# Altium integrated library P-Channel Dual FET Array.IntLib: 27 symbols
Pins are listed as number, name and electrical type; pins without a type are passive.

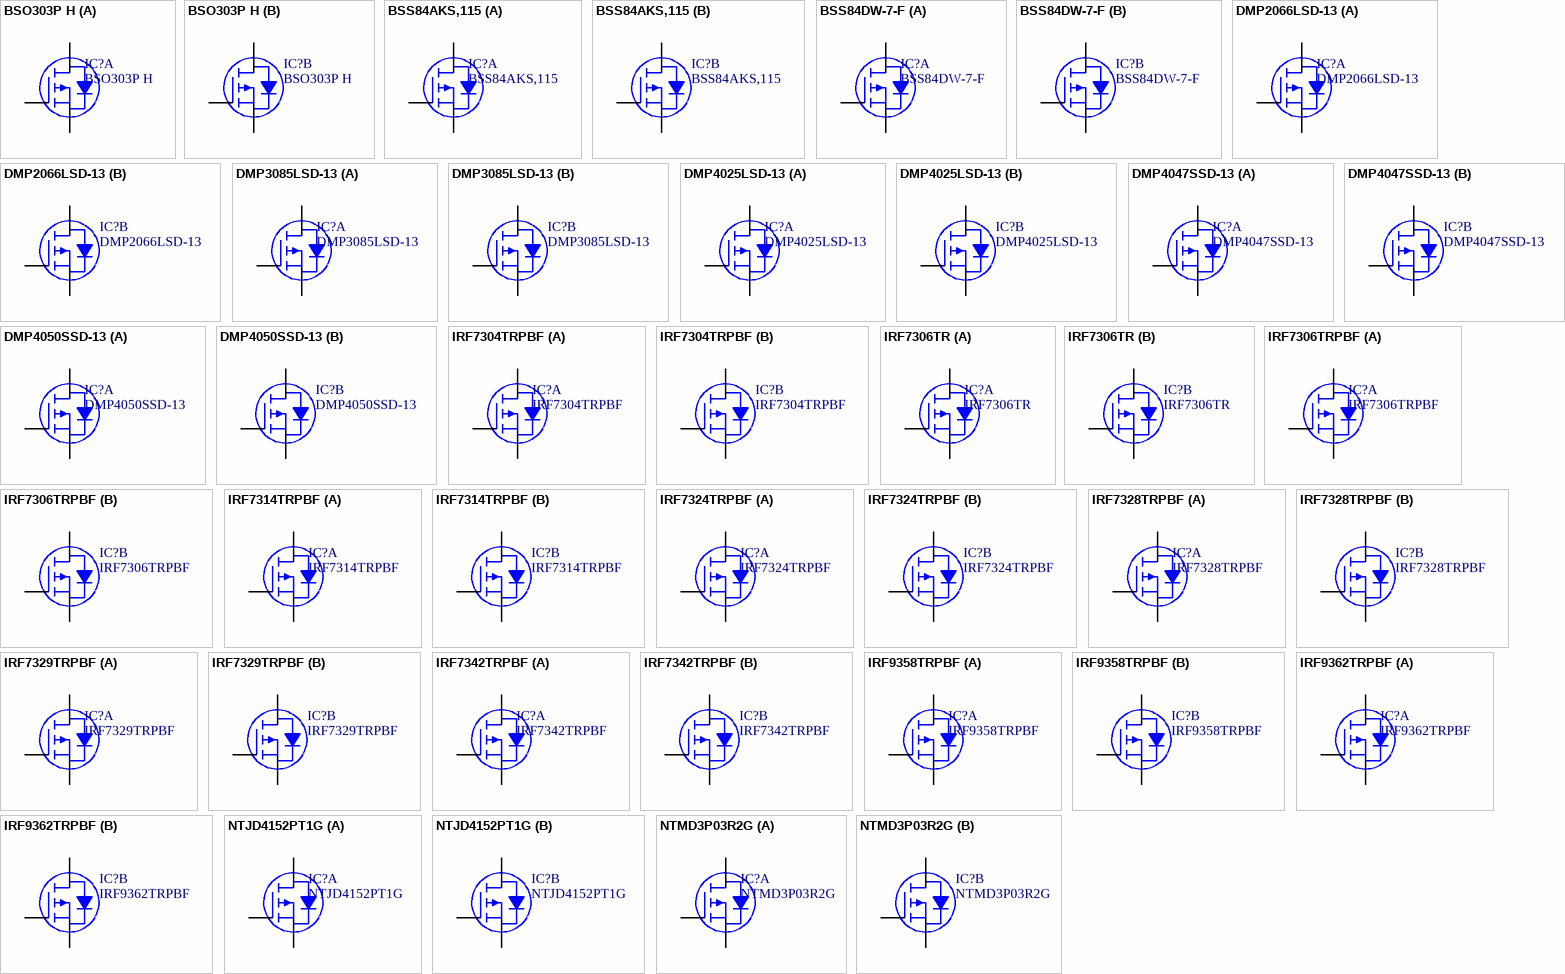
[diagram p0: symbols BSO303P H to NTMD3P03R2G]

## BSO303P H
designator IC?
MOSFET 2P-CH 30V 7A 8DSO; Manufacturer: Infineon Technologies; Rds On (Max) at Id, Vgs: 21 mOhm @ 8.2A, 10V; Vgs(th) (Max) at Id: 2V @ 100uA; Gate Charge (Qg): 49nC @ 10V; Input Capacitance (Ciss) at Vds: 2678pF @ 25V; Power - Max: 2W; Part Number: BSO303P H; PartId: 8234; Supplier 1: Digi-Key; Supplier Part Number 1: BSO303P HTR-ND; ComponentLink1Description: Datasheet; ComponentLink1URL: http://www.infineon.com/dgdl/BSO303P_1+3.pdf?folderId=db3a304314dca38901154a7313d21a66&fileId=db3a304326c2768b0126d1b29d566873; ComponentLink2Description: Digi-Key Listing; ComponentLink2URL: http://www.digikey.com/product-detail/en/BSO303P%20H/BSO303P%20HTR-ND/2337870; Price: 0.5472; Type: 2 P-Channel (Dual); Device Package: 8-SOIC (0.154", 3.90mm Width); Drain to Source Voltage (Vdss): 30V; Features: Logic Level Gate; Current Continuous Drain: 7A
footprint INFINEON SO-8
part A pins: 1 S1, 2 G1, 7 D1, 8 D1
part B pins: 3 S2, 4 G2, 5 D2, 6 D2

## BSS84AKS,115
designator IC?
MOSFET 2P-CH 50V 0.16A 6TSSOP; Manufacturer: NXP Semiconductors; Rds On (Max) at Id, Vgs: 7.5 Ohm @ 100mA, 10V; Vgs(th) (Max) at Id: 2.1V @ 250uA; Gate Charge (Qg): 0.35nC @ 5V; Input Capacitance (Ciss) at Vds: 36pF @ 25V; Power - Max: 445mW; Current Continuous Drain: 160mA; Part Number: BSS84AKS,115; PartId: 8221; Supplier 1: Digi-Key; Supplier Part Number 1: 568-8394-2-ND; ComponentLink1Description: Datasheet; ComponentLink1URL: http://www.nxp.com/documents/data_sheet/BSS84AKS.pdf; ComponentLink2Description: Digi-Key Listing; ComponentLink2URL: http://www.digikey.com/product-detail/en/BSS84AKS,115/568-8394-2-ND/2763893; Price: 0.1024; Type: 2 P-Channel (Dual); Device Package: 6-TSSOP, SC-88, SOT-363; Drain to Source Voltage (Vdss): 50V; Features: Logic Level Gate
footprint NXP SOT-363
part A pins: 1 S1, 2 G1, 6 D1
part B pins: 3 D2, 4 S2, 5 G2

## BSS84DW-7-F
designator IC?
MOSFET 2P-CH 50V 0.13A SC70-6; Manufacturer: Diodes Incorporated; Rds On (Max) at Id, Vgs: 10 Ohm @ 100mA, 5V; Vgs(th) (Max) at Id: 2V @ 1mA; Input Capacitance (Ciss) at Vds: 45pF @ 25V; Power - Max: 300mW; Current Continuous Drain: 130mA; Part Number: BSS84DW-7-F; PartId: 8222; Supplier 1: Digi-Key; Supplier Part Number 1: BSS84DW-FDITR-ND; ComponentLink1Description: Datasheet; ComponentLink1URL: http://www.diodes.com/_files/datasheets/ds30204.pdf; ComponentLink2Description: Digi-Key Listing; ComponentLink2URL: http://www.digikey.com/product-detail/en/BSS84DW-7-F/BSS84DW-FDITR-ND/717725; Price: 0.099; Type: 2 P-Channel (Dual); Device Package: 6-TSSOP, SC-88, SOT-363; Gate Charge (Qg): -; Drain to Source Voltage (Vdss): 50V; Features: Logic Level Gate
footprint DIODES SOT-363
part A pins: 1 S1, 2 G1, 6 D1
part B pins: 3 D2, 4 S2, 5 G2

## DMP2066LSD-13
designator IC?
MOSFET 2P-CH 20V 5.8A 8-SOIC; Manufacturer: Diodes Incorporated; Rds On (Max) at Id, Vgs: 40 mOhm @ 4.6A, 4.5V; Vgs(th) (Max) at Id: 1.2V @ 250uA; Gate Charge (Qg): 10.1nC @ 4.5V; Input Capacitance (Ciss) at Vds: 820pF @ 15V; Power - Max: 2W; Part Number: DMP2066LSD-13; PartId: 8228; Supplier 1: Digi-Key; Supplier Part Number 1: DMP2066LSDDITR-ND; ComponentLink1Description: Datasheet; ComponentLink1URL: http://www.diodes.com/_files/datasheets/ds31453.pdf; ComponentLink2Description: Digi-Key Listing; ComponentLink2URL: http://www.digikey.com/product-detail/en/DMP2066LSD-13/DMP2066LSDDITR-ND/1964689; Price: 0.261; Type: 2 P-Channel (Dual); Device Package: 8-SOIC (0.154", 3.90mm Width); Drain to Source Voltage (Vdss): 20V; Features: Logic Level Gate; Current Continuous Drain: 5.8A
footprint DIODES SO-8
part A pins: 1 S1, 2 G1, 7 D1, 8 D1
part B pins: 3 S2, 4 G2, 5 D2, 6 D2

## DMP3085LSD-13
designator IC?
MOSFET 2P-CH 30V 3.9A 8SO; Manufacturer: Diodes Incorporated; Rds On (Max) at Id, Vgs: 70 mOhm @ 5.3A, 10V; Vgs(th) (Max) at Id: 3V @ 250uA; Gate Charge (Qg): 11nC @ 10V; Input Capacitance (Ciss) at Vds: 563pF @ 25V; Power - Max: 1.1W; Part Number: DMP3085LSD-13; PartId: 8224; Supplier 1: Digi-Key; Supplier Part Number 1: DMP3085LSD-13DITR-ND; ComponentLink1Description: Datasheet; ComponentLink1URL: http://www.diodes.com/_files/datasheets/DMP3085LSD.pdf; ComponentLink2Description: Digi-Key Listing; ComponentLink2URL: http://www.digikey.com/product-detail/en/DMP3085LSD-13/DMP3085LSD-13DITR-ND/4251562; Price: 0.099; Type: 2 P-Channel (Dual); Device Package: 8-SOIC (0.154", 3.90mm Width); Drain to Source Voltage (Vdss): 30V; Features: Logic Level Gate; Current Continuous Drain: 3.9A
footprint DIODES SO-8
part A pins: 1 S1, 2 G1, 7 D1, 8 D1
part B pins: 3 S2, 4 G2, 5 D2, 6 D2

## DMP4025LSD-13
designator IC?
MOSFET 2P-CH 40V 6.9A 8SO; Manufacturer: Diodes Incorporated; Rds On (Max) at Id, Vgs: 25 mOhm @ 3A, 10V; Vgs(th) (Max) at Id: 1.8V @ 250uA; Gate Charge (Qg): 33.7nC @ 10V; Input Capacitance (Ciss) at Vds: 1640pF @ 20V; Power - Max: 1.8W; Part Number: DMP4025LSD-13; PartId: 8225; Supplier 1: Digi-Key; Supplier Part Number 1: DMP4025LSD-13DITR-ND; ComponentLink1Description: Datasheet; ComponentLink1URL: http://www.diodes.com/_files/datasheets/DMP4025LSD.pdf; ComponentLink2Description: Digi-Key Listing; ComponentLink2URL: http://www.digikey.com/product-detail/en/DMP4025LSD-13/DMP4025LSD-13DITR-ND/3678208; Price: 0.3443; Type: 2 P-Channel (Dual); Device Package: 8-SOIC (0.154", 3.90mm Width); Drain to Source Voltage (Vdss): 40V; Features: Logic Level Gate; Current Continuous Drain: 6.9A
footprint DIODES SO-8
part A pins: 1 S1, 2 G1, 7 D1, 8 D1
part B pins: 3 S2, 4 G2, 5 D2, 6 D2

## DMP4047SSD-13
designator IC?
MOSFET 2P-CH 40V 5.1A 8SOIC; Manufacturer: Diodes Incorporated; Rds On (Max) at Id, Vgs: 45 mOhm @ 4.4A, 10V; Vgs(th) (Max) at Id: 3V @ 250uA; Gate Charge (Qg): 21.5nC @ 10V; Input Capacitance (Ciss) at Vds: 1154pF @ 20V; Power - Max: 1.3W; Part Number: DMP4047SSD-13; PartId: 8231; Supplier 1: Digi-Key; Supplier Part Number 1: DMP4047SSD-13DITR-ND; ComponentLink1Description: Datasheet; ComponentLink1URL: http://diodes.com/_files/datasheets/DMP4047SSD.pdf; ComponentLink2Description: Digi-Key Listing; ComponentLink2URL: http://www.digikey.com/product-detail/en/DMP4047SSD-13/DMP4047SSD-13DITR-ND/4570609; Price: 0.2537; Type: 2 P-Channel (Dual); Device Package: 8-SOIC (0.154", 3.90mm Width); Drain to Source Voltage (Vdss): 40V; Features: Logic Level Gate; Current Continuous Drain: 5.1A
footprint DIODES SO-8
part A pins: 1 S1, 2 G1, 7 D1, 8 D1
part B pins: 3 S2, 4 G2, 5 D2, 6 D2

## DMP4050SSD-13
designator IC?
MOSFET 2P-CH 40V 4A 8SO; Manufacturer: Diodes Incorporated; Rds On (Max) at Id, Vgs: 50 mOhm @ 6A, 10V; Vgs(th) (Max) at Id: 3V @ 250uA; Gate Charge (Qg): 13.9nC @ 10V; Input Capacitance (Ciss) at Vds: 674pF @ 20V; Power - Max: 1.8W; Part Number: DMP4050SSD-13; PartId: 8226; Supplier 1: Digi-Key; Supplier Part Number 1: DMP4050SSD-13TR-ND; ComponentLink1Description: Datasheet; ComponentLink1URL: http://diodes.com/_files/datasheets/DMP4050SSD.pdf; ComponentLink2Description: Digi-Key Listing; ComponentLink2URL: http://www.digikey.com/product-detail/en/DMP4050SSD-13/DMP4050SSD-13TR-ND/2295362; Price: 0.364; Type: 2 P-Channel (Dual); Device Package: 8-SOIC (0.154", 3.90mm Width); Drain to Source Voltage (Vdss): 40V; Features: Logic Level Gate; Current Continuous Drain: 4A
footprint DIODES SO-8
part A pins: 1 S1, 2 G1, 7 D1, 8 D1
part B pins: 3 S2, 4 G2, 5 D2, 6 D2

## IRF7304TRPBF
designator IC?
MOSFET 2P-CH 20V 4.3A 8-SOIC; Manufacturer: Infineon Technologies Americas Corp.; Rds On (Max) at Id, Vgs: 90 mOhm @ 2.2A, 4.5V; Vgs(th) (Max) at Id: 700mV @ 250uA; Gate Charge (Qg): 22nC @ 4.5V; Input Capacitance (Ciss) at Vds: 610pF @ 15V; Power - Max: 2W; Part Number: IRF7304TRPBF; PartId: 8243; Supplier 1: Digi-Key; Supplier Part Number 1: IRF7304PBFTR-ND; ComponentLink1Description: Datasheet; ComponentLink1URL: http://www.irf.com/product-info/datasheets/data/irf7304pbf.pdf; ComponentLink2Description: Digi-Key Listing; ComponentLink2URL: http://www.digikey.com/product-detail/en/IRF7304TRPBF/IRF7304PBFTR-ND/811460; Price: 0.364; Type: 2 P-Channel (Dual); Device Package: 8-SOIC (0.154", 3.90mm Width); Drain to Source Voltage (Vdss): 20V; Features: Logic Level Gate; Current Continuous Drain: 4.3A
footprint INFINEON SO-8
part A pins: 1 S1, 2 G1, 7 D1, 8 D1
part B pins: 3 S2, 4 G2, 5 D2, 6 D2

## IRF7306TR
designator IC?
MOSFET 2P-CH 30V 3.6A 8-SOIC; Manufacturer: Infineon Technologies Americas Corp.; Rds On (Max) at Id, Vgs: 100 mOhm @ 1.8A, 10V; Vgs(th) (Max) at Id: 1V @ 250uA; Gate Charge (Qg): 25nC @ 10V; Input Capacitance (Ciss) at Vds: 440pF @ 25V; Power - Max: 2W; Part Number: IRF7306TR; PartId: 8244; Supplier 1: Digi-Key; Supplier Part Number 1: IRF7306TR-ND; ComponentLink1Description: Datasheet; ComponentLink1URL: http://www.irf.com/product-info/datasheets/data/irf7306.pdf; ComponentLink2Description: Digi-Key Listing; ComponentLink2URL: http://www.digikey.com/product-detail/en/IRF7306TR/IRF7306TR-ND/352230; Price: 0.7857; Type: 2 P-Channel (Dual); Device Package: 8-SOIC (0.154", 3.90mm Width); Drain to Source Voltage (Vdss): 30V; Features: Logic Level Gate; Current Continuous Drain: 3.6A
footprint INFINEON SO-8
part A pins: 1 S1, 2 G1, 7 D1, 8 D1
part B pins: 3 S2, 4 G2, 5 D2, 6 D2

## IRF7306TRPBF
designator IC?
MOSFET 2P-CH 30V 3.6A 8-SOIC; Manufacturer: Infineon Technologies Americas Corp.; Rds On (Max) at Id, Vgs: 100 mOhm @ 1.8A, 10V; Vgs(th) (Max) at Id: 1V @ 250uA; Gate Charge (Qg): 25nC @ 10V; Input Capacitance (Ciss) at Vds: 440pF @ 25V; Power - Max: 2W; Part Number: IRF7306TRPBF; PartId: 8236; Supplier 1: Digi-Key; Supplier Part Number 1: IRF7306PBFTR-ND; ComponentLink1Description: Datasheet; ComponentLink1URL: http://www.irf.com/product-info/datasheets/data/irf7306pbf.pdf; ComponentLink2Description: Digi-Key Listing; ComponentLink2URL: http://www.digikey.com/product-detail/en/IRF7306TRPBF/IRF7306PBFTR-ND/811484; Price: 0.392; Type: 2 P-Channel (Dual); Device Package: 8-SOIC (0.154", 3.90mm Width); Drain to Source Voltage (Vdss): 30V; Features: Logic Level Gate; Current Continuous Drain: 3.6A
footprint INFINEON SO-8
part A pins: 1 S1, 2 G1, 7 D1, 8 D1
part B pins: 3 S2, 4 G2, 5 D2, 6 D2

## IRF7314TRPBF
designator IC?
MOSFET 2P-CH 20V 5.3A 8-SOIC; Manufacturer: Infineon Technologies Americas Corp.; Rds On (Max) at Id, Vgs: 58 mOhm @ 2.9A, 4.5V; Vgs(th) (Max) at Id: 700mV @ 250uA; Gate Charge (Qg): 29nC @ 4.5V; Input Capacitance (Ciss) at Vds: 780pF @ 15V; Power - Max: 2W; Part Number: IRF7314TRPBF; PartId: 8242; Supplier 1: Digi-Key; Supplier Part Number 1: IRF7314PBFTR-ND; ComponentLink1Description: Datasheet; ComponentLink1URL: http://www.irf.com/product-info/datasheets/data/irf7314pbf.pdf; ComponentLink2Description: Digi-Key Listing; ComponentLink2URL: http://www.digikey.com/product-detail/en/IRF7314TRPBF/IRF7314PBFTR-ND/811493; Price: 0.3584; Type: 2 P-Channel (Dual); Device Package: 8-SOIC (0.154", 3.90mm Width); Drain to Source Voltage (Vdss): 20V; Features: Logic Level Gate; Current Continuous Drain: 5.3A
footprint INFINEON SO-8
part A pins: 1 S1, 2 G1, 7 D1, 8 D1
part B pins: 3 S2, 4 G2, 5 D2, 6 D2

## IRF7324TRPBF
designator IC?
MOSFET 2P-CH 20V 9A 8-SOIC; Manufacturer: Infineon Technologies Americas Corp.; Rds On (Max) at Id, Vgs: 18 mOhm @ 9A, 4.5V; Vgs(th) (Max) at Id: 1V @ 250uA; Gate Charge (Qg): 63nC @ 5V; Input Capacitance (Ciss) at Vds: 2940pF @ 15V; Power - Max: 2W; Part Number: IRF7324TRPBF; PartId: 8240; Supplier 1: Digi-Key; Supplier Part Number 1: IRF7324PBFTR-ND; ComponentLink1Description: Datasheet; ComponentLink1URL: http://www.irf.com/product-info/datasheets/data/irf7324pbf.pdf; ComponentLink2Description: Digi-Key Listing; ComponentLink2URL: http://www.digikey.com/product-detail/en/IRF7324TRPBF/IRF7324PBFTR-ND/812746; Price: 0.6734; Type: 2 P-Channel (Dual); Device Package: 8-SOIC (0.154", 3.90mm Width); Drain to Source Voltage (Vdss): 20V; Features: Logic Level Gate; Current Continuous Drain: 9A
footprint INFINEON SO-8
part A pins: 1 S1, 2 G1, 7 D1, 8 D1
part B pins: 3 S2, 4 G2, 5 D2, 6 D2

## IRF7328TRPBF
designator IC?
MOSFET 2P-CH 30V 8A 8-SOIC; Manufacturer: Infineon Technologies Americas Corp.; Rds On (Max) at Id, Vgs: 21 mOhm @ 8A, 10V; Vgs(th) (Max) at Id: 2.5V @ 250uA; Gate Charge (Qg): 78nC @ 10V; Input Capacitance (Ciss) at Vds: 2675pF @ 25V; Power - Max: 2W; Part Number: IRF7328TRPBF; PartId: 8241; Supplier 1: Digi-Key; Supplier Part Number 1: IRF7328PBFTR-ND; ComponentLink1Description: Datasheet; ComponentLink1URL: http://www.irf.com/product-info/datasheets/data/irf7328pbf.pdf; ComponentLink2Description: Digi-Key Listing; ComponentLink2URL: http://www.digikey.com/product-detail/en/IRF7328TRPBF/IRF7328PBFTR-ND/812738; Price: 0.9504; Type: 2 P-Channel (Dual); Device Package: 8-SOIC (0.154", 3.90mm Width); Drain to Source Voltage (Vdss): 30V; Features: Logic Level Gate; Current Continuous Drain: 8A
footprint INFINEON SO-8
part A pins: 1 S1, 2 G1, 7 D1, 8 D1
part B pins: 3 S2, 4 G2, 5 D2, 6 D2

## IRF7329TRPBF
designator IC?
MOSFET 2P-CH 12V 9.2A 8-SOIC; Manufacturer: Infineon Technologies Americas Corp.; Rds On (Max) at Id, Vgs: 17 mOhm @ 9.2A, 4.5V; Vgs(th) (Max) at Id: 900mV @ 250uA; Gate Charge (Qg): 57nC @ 4.5V; Input Capacitance (Ciss) at Vds: 3450pF @ 10V; Power - Max: 2W; Part Number: IRF7329TRPBF; PartId: 8239; Supplier 1: Digi-Key; Supplier Part Number 1: IRF7329PBFTR-ND; ComponentLink1Description: Datasheet; ComponentLink1URL: http://www.irf.com/product-info/datasheets/data/irf7329pbf.pdf; ComponentLink2Description: Digi-Key Listing; ComponentLink2URL: http://www.digikey.com/product-detail/en/IRF7329TRPBF/IRF7329PBFTR-ND/811487; Price: 0.4858; Type: 2 P-Channel (Dual); Device Package: 8-SOIC (0.154", 3.90mm Width); Drain to Source Voltage (Vdss): 12V; Features: Logic Level Gate; Current Continuous Drain: 9.2A
footprint INFINEON SO-8
part A pins: 1 S1, 2 G1, 7 D1, 8 D1
part B pins: 3 S2, 4 G2, 5 D2, 6 D2

## IRF7342TRPBF
designator IC?
MOSFET 2P-CH 55V 3.4A 8-SOIC; Manufacturer: Infineon Technologies Americas Corp.; Rds On (Max) at Id, Vgs: 105 mOhm @ 3.4A, 10V; Vgs(th) (Max) at Id: 1V @ 250uA; Gate Charge (Qg): 38nC @ 10V; Input Capacitance (Ciss) at Vds: 690pF @ 25V; Power - Max: 2W; Part Number: IRF7342TRPBF; PartId: 8238; Supplier 1: Digi-Key; Supplier Part Number 1: IRF7342PBFTR-ND; ComponentLink1Description: Datasheet; ComponentLink1URL: http://www.irf.com/product-info/datasheets/data/irf7342pbf.pdf; ComponentLink2Description: Digi-Key Listing; ComponentLink2URL: http://www.digikey.com/product-detail/en/IRF7342TRPBF/IRF7342PBFTR-ND/811467; Price: 0.4592; Type: 2 P-Channel (Dual); Device Package: 8-SOIC (0.154", 3.90mm Width); Drain to Source Voltage (Vdss): 55V; Features: Logic Level Gate; Current Continuous Drain: 3.4A
footprint INFINEON SO-8
part A pins: 1 S1, 2 G1, 7 D1, 8 D1
part B pins: 3 S2, 4 G2, 5 D2, 6 D2

## IRF9358TRPBF
designator IC?
MOSFET 2P-CH 30V 9.2A 8SOIC; Manufacturer: Infineon Technologies Americas Corp.; Rds On (Max) at Id, Vgs: 16.3 mOhm @ 9.2A, 10V; Vgs(th) (Max) at Id: 2.4V @ 25uA; Gate Charge (Qg): 38nC @ 10V; Input Capacitance (Ciss) at Vds: 1740pF @ 25V; Power - Max: 2W; Part Number: IRF9358TRPBF; PartId: 8237; Supplier 1: Digi-Key; Supplier Part Number 1: IRF9358TRPBFTR-ND; ComponentLink1Description: Datasheet; ComponentLink1URL: http://www.irf.com/product-info/datasheets/data/irf9358pbf.pdf; ComponentLink2Description: Digi-Key Listing; ComponentLink2URL: http://www.digikey.com/product-detail/en/IRF9358TRPBF/IRF9358TRPBFTR-ND/2605713; Price: 0.441; Type: 2 P-Channel (Dual); Device Package: 8-SOIC (0.154", 3.90mm Width); Drain to Source Voltage (Vdss): 30V; Features: Logic Level Gate; Current Continuous Drain: 9.2A
footprint INFINEON SO-8
part A pins: 1 S1, 2 G1, 7 D1, 8 D1
part B pins: 3 S2, 4 G2, 5 D2, 6 D2

## IRF9362TRPBF
designator IC?
MOSFET 2P-CH 30V 8A 8SOIC; Manufacturer: Infineon Technologies Americas Corp.; Rds On (Max) at Id, Vgs: 21 mOhm @ 8A, 10V; Vgs(th) (Max) at Id: 2.4V @ 25uA; Gate Charge (Qg): 39nC @ 10V; Input Capacitance (Ciss) at Vds: 1300pF @ 25V; Power - Max: 2W; Part Number: IRF9362TRPBF; PartId: 8235; Supplier 1: Digi-Key; Supplier Part Number 1: IRF9362TRPBFTR-ND; ComponentLink1Description: Datasheet; ComponentLink1URL: http://www.irf.com/product-info/datasheets/data/irf9362pbf.pdf; ComponentLink2Description: Digi-Key Listing; ComponentLink2URL: http://www.digikey.com/product-detail/en/IRF9362TRPBF/IRF9362TRPBFTR-ND/2354082; Price: 0.378; Type: 2 P-Channel (Dual); Device Package: 8-SOIC (0.154", 3.90mm Width); Drain to Source Voltage (Vdss): 30V; Features: Logic Level Gate; Current Continuous Drain: 8A
footprint INFINEON SO-8
part A pins: 1 S1, 2 G1, 7 D1, 8 D1
part B pins: 3 S2, 4 G2, 5 D2, 6 D2

## NTJD4152PT1G
designator IC?
MOSFET 2P-CH 20V 0.88A SOT-363; Manufacturer: ON Semiconductor; Rds On (Max) at Id, Vgs: 260 mOhm @ 880mA, 4.5V; Vgs(th) (Max) at Id: 450mV @ 250uA; Gate Charge (Qg): 2.2nC @ 4.5V; Input Capacitance (Ciss) at Vds: 155pF @ 20V; Power - Max: 272mW; Current Continuous Drain: 880mA; Part Number: NTJD4152PT1G; PartId: 8223; Supplier 1: Digi-Key; Supplier Part Number 1: NTJD4152PT1GOSTR-ND; ComponentLink1Description: Datasheet; ComponentLink1URL: http://www.onsemi.com/pub_link/Collateral/NTJD4152P-D.PDF; ComponentLink2Description: Digi-Key Listing; ComponentLink2URL: http://www.digikey.com/product-detail/en/NTJD4152PT1G/NTJD4152PT1GOSTR-ND/687088; Price: 0.1122; Type: 2 P-Channel (Dual); Device Package: 6-TSSOP, SC-88, SOT-363; Drain to Source Voltage (Vdss): 20V; Features: Logic Level Gate
footprint ON SEMI SOT-363
part A pins: 1 S1, 2 G1, 6 D1
part B pins: 3 D2, 4 S2, 5 G2

## NTMD3P03R2G
designator IC?
MOSFET 2P-CH 30V 2.34A 8SOIC; Manufacturer: ON Semiconductor; Rds On (Max) at Id, Vgs: 85 mOhm @ 3.05A, 10V; Vgs(th) (Max) at Id: 2.5V @ 250uA; Gate Charge (Qg): 25nC @ 10V; Input Capacitance (Ciss) at Vds: 750pF @ 24V; Power - Max: 730mW; Part Number: NTMD3P03R2G; PartId: 8246; Supplier 1: Digi-Key; Supplier Part Number 1: NTMD3P03R2GOSTR-ND; ComponentLink1Description: Datasheet; ComponentLink1URL: http://www.onsemi.com/pub_link/Collateral/NTMD3P03R2-D.PDF; ComponentLink2Description: Digi-Key Listing; ComponentLink2URL: http://www.digikey.com/product-detail/en/NTMD3P03R2G/NTMD3P03R2GOSTR-ND/921584; Price: 0.3871; Type: 2 P-Channel (Dual); Device Package: 8-SOIC (0.154", 3.90mm Width); Drain to Source Voltage (Vdss): 30V; Features: Logic Level Gate; Current Continuous Drain: 2.34A
footprint ON SEMI SO-8
part A pins: 1 S1, 2 G1, 7 D1, 8 D1
part B pins: 3 S2, 4 G2, 5 D2, 6 D2

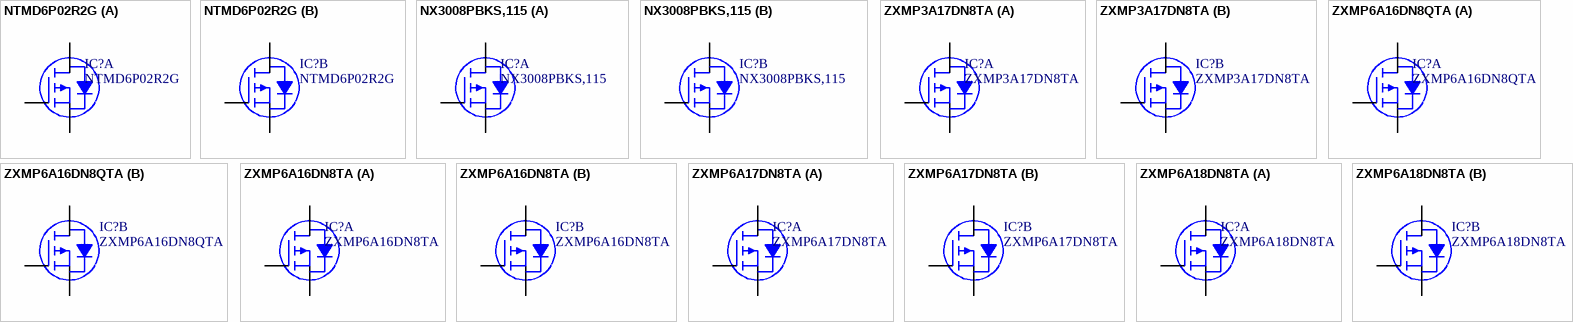
[diagram p1: symbols NTMD6P02R2G to ZXMP6A18DN8TA]

## NTMD6P02R2G
designator IC?
MOSFET 2P-CH 20V 4.8A 8SOIC; Manufacturer: ON Semiconductor; Rds On (Max) at Id, Vgs: 33 mOhm @ 6.2A, 4.5V; Vgs(th) (Max) at Id: 1.2V @ 250uA; Gate Charge (Qg): 35nC @ 4.5V; Input Capacitance (Ciss) at Vds: 1700pF @ 16V; Power - Max: 750mW; Part Number: NTMD6P02R2G; PartId: 8245; Supplier 1: Digi-Key; Supplier Part Number 1: NTMD6P02R2GOSTR-ND; ComponentLink1Description: Datasheet; ComponentLink1URL: http://www.onsemi.com/pub_link/Collateral/NTMD6P02R2-D.PDF; ComponentLink2Description: Digi-Key Listing; ComponentLink2URL: http://www.digikey.com/product-detail/en/NTMD6P02R2G/NTMD6P02R2GOSTR-ND/921588; Price: 0.3462; Type: 2 P-Channel (Dual); Device Package: 8-SOIC (0.154", 3.90mm Width); Drain to Source Voltage (Vdss): 20V; Features: Logic Level Gate; Current Continuous Drain: 4.8A
footprint ON SEMI SO-8
part A pins: 1 S1, 2 G1, 7 D1, 8 D1
part B pins: 3 S2, 4 G2, 5 D2, 6 D2

## NX3008PBKS,115
designator IC?
MOSFET 2P-CH 30V 0.2A 6TSSOP; Manufacturer: NXP Semiconductors; Rds On (Max) at Id, Vgs: 4.1 Ohm @ 200mA, 4.5V; Vgs(th) (Max) at Id: 1.1V @ 250uA; Gate Charge (Qg): 0.75nC @ 4.5V; Input Capacitance (Ciss) at Vds: 46pF @ 15V; Power - Max: 445mW; Current Continuous Drain: 200mA; Part Number: NX3008PBKS,115; PartId: 8220; Supplier 1: Digi-Key; Supplier Part Number 1: 568-10500-2-ND; ComponentLink1Description: Datasheet; ComponentLink1URL: http://www.nxp.com/documents/data_sheet/NX3008PBKS.pdf; ComponentLink2Description: Digi-Key Listing; ComponentLink2URL: http://www.digikey.com/product-detail/en/NX3008PBKS,115/568-10500-2-ND/2779968; Price: 0.0864; Type: 2 P-Channel (Dual); Device Package: 6-TSSOP, SC-88, SOT-363; Drain to Source Voltage (Vdss): 30V; Features: Logic Level Gate
footprint NXP SOT-363
part A pins: 1 S1, 2 G1, 6 D1
part B pins: 3 D2, 4 S2, 5 G2

## ZXMP3A17DN8TA
designator IC?
MOSFET 2P-CH 30V 3.4A 8-SOIC; Manufacturer: Diodes Incorporated; Rds On (Max) at Id, Vgs: 70 mOhm @ 3.2A, 10V; Vgs(th) (Max) at Id: 1V @ 250uA (Min); Gate Charge (Qg): 15.8nC @ 10V; Input Capacitance (Ciss) at Vds: 630pF @ 15V; Power - Max: 1.8W; Part Number: ZXMP3A17DN8TA; PartId: 8233; Supplier 1: Digi-Key; Supplier Part Number 1: ZXMP3A17DN8TR-ND; ComponentLink1Description: Datasheet; ComponentLink1URL: http://www.diodes.com/_files/datasheets/ZXMP3A17DN8.pdf; ComponentLink2Description: Digi-Key Listing; ComponentLink2URL: http://www.digikey.com/product-detail/en/ZXMP3A17DN8TA/ZXMP3A17DN8TR-ND/504791; Price: 0.7182; Type: 2 P-Channel (Dual); Device Package: 8-SOIC (0.154", 3.90mm Width); Drain to Source Voltage (Vdss): 30V; Features: Logic Level Gate; Current Continuous Drain: 3.4A
footprint DIODES SO-8
part A pins: 1 S1, 2 G1, 7 D1, 8 D1
part B pins: 3 S2, 4 G2, 5 D2, 6 D2

## ZXMP6A16DN8QTA
designator IC?
MOSFET 2P-CH 60V 2.9A 8-SOIC; Manufacturer: Diodes Incorporated; Rds On (Max) at Id, Vgs: 85 mOhm @ 2.9A, 10V; Vgs(th) (Max) at Id: 1V @ 250uA (Min); Gate Charge (Qg): 24.2nC @ 10V; Input Capacitance (Ciss) at Vds: 1021pF @ 30V; Power - Max: 1.81W; Part Number: ZXMP6A16DN8QTA; PartId: 8232; Supplier 1: Digi-Key; Supplier Part Number 1: ZXMP6A16DN8QTADITR-ND; ComponentLink1Description: Datasheet; ComponentLink1URL: http://media.digikey.com/pdf/Data%20Sheets/Diodes%20PDFs/ZXMP6A16DN8Q.pdf; ComponentLink2Description: Digi-Key Listing; ComponentLink2URL: http://www.digikey.com/product-detail/en/ZXMP6A16DN8QTA/ZXMP6A16DN8QTADITR-ND/4868763; Price: 0.779; Type: 2 P-Channel (Dual); Device Package: 8-SOIC (0.154", 3.90mm Width); Drain to Source Voltage (Vdss): 60V; Features: Logic Level Gate; Current Continuous Drain: 2.9A
footprint DIODES SO-8
part A pins: 1 S1, 2 G1, 7 D1, 8 D1
part B pins: 3 S2, 4 G2, 5 D2, 6 D2

## ZXMP6A16DN8TA
designator IC?
MOSFET 2P-CH 60V 2.9A 8-SOIC; Manufacturer: Diodes Incorporated; Rds On (Max) at Id, Vgs: 85 mOhm @ 2.9A, 10V; Vgs(th) (Max) at Id: 1V @ 250uA (Min); Gate Charge (Qg): 24.2nC @ 10V; Input Capacitance (Ciss) at Vds: 1021pF @ 30V; Power - Max: 1.81W; Part Number: ZXMP6A16DN8TA; PartId: 8230; Supplier 1: Digi-Key; Supplier Part Number 1: ZXMP6A16DN8TR-ND; ComponentLink1Description: Datasheet; ComponentLink1URL: http://www.diodes.com/_files/datasheets/ZXMP6A16DN8.pdf; ComponentLink2Description: Digi-Key Listing; ComponentLink2URL: http://www.digikey.com/product-detail/en/ZXMP6A16DN8TA/ZXMP6A16DN8TR-ND/560635; Price: 0.627; Type: 2 P-Channel (Dual); Device Package: 8-SOIC (0.154", 3.90mm Width); Drain to Source Voltage (Vdss): 60V; Features: Logic Level Gate; Current Continuous Drain: 2.9A
footprint DIODES SO-8
part A pins: 1 S1, 2 G1, 7 D1, 8 D1
part B pins: 3 S2, 4 G2, 5 D2, 6 D2

## ZXMP6A17DN8TA
designator IC?
MOSFET 2P-CH 60V 2.7A 8-SOIC; Manufacturer: Diodes Incorporated; Rds On (Max) at Id, Vgs: 125 mOhm @ 2.3A, 10V; Vgs(th) (Max) at Id: 1V @ 250uA (Min); Gate Charge (Qg): 17.7nC @ 10V; Input Capacitance (Ciss) at Vds: 637pF @ 30V; Power - Max: 1.81W; Part Number: ZXMP6A17DN8TA; PartId: 8229; Supplier 1: Digi-Key; Supplier Part Number 1: ZXMP6A17DN8TR-ND; ComponentLink1Description: Datasheet; ComponentLink1URL: http://www.diodes.com/_files/datasheets/ZXMP6A17DN8.pdf; ComponentLink2Description: Digi-Key Listing; ComponentLink2URL: http://www.digikey.com/product-detail/en/ZXMP6A17DN8TA/ZXMP6A17DN8TR-ND/560636; Price: 0.5871; Type: 2 P-Channel (Dual); Device Package: 8-SOIC (0.154", 3.90mm Width); Drain to Source Voltage (Vdss): 60V; Features: Logic Level Gate; Current Continuous Drain: 2.7A
footprint DIODES SO-8
part A pins: 1 S1, 2 G1, 7 D1, 8 D1
part B pins: 3 S2, 4 G2, 5 D2, 6 D2

## ZXMP6A18DN8TA
designator IC?
MOSFET 2P-CH 60V 3.7A 8-SOIC; Manufacturer: Diodes Incorporated; Rds On (Max) at Id, Vgs: 55 mOhm @ 3.5A, 10V; Vgs(th) (Max) at Id: 1V @ 250uA (Min); Gate Charge (Qg): 44nC @ 10V; Input Capacitance (Ciss) at Vds: 1580pF @ 30V; Power - Max: 1.8W; Part Number: ZXMP6A18DN8TA; PartId: 8227; Supplier 1: Digi-Key; Supplier Part Number 1: ZXMP6A18DN8TR-ND; ComponentLink1Description: Datasheet; ComponentLink1URL: http://www.diodes.com/_files/datasheets/ZXMP6A18DN8.pdf; ComponentLink2Description: Digi-Key Listing; ComponentLink2URL: http://www.digikey.com/product-detail/en/ZXMP6A18DN8TA/ZXMP6A18DN8TR-ND/560633; Price: 0.9625; Type: 2 P-Channel (Dual); Device Package: 8-SOIC (0.154", 3.90mm Width); Drain to Source Voltage (Vdss): 60V; Features: Logic Level Gate; Current Continuous Drain: 3.7A
footprint DIODES SO-8
part A pins: 1 S1, 2 G1, 7 D1, 8 D1
part B pins: 3 S2, 4 G2, 5 D2, 6 D2